# Altium schematic symbol library SWITCH-SLIDE-DPDT.SchLib: 1 symbol
Pins are listed as number, name and electrical type; pins without a type are passive.

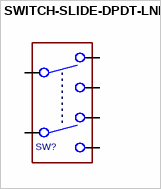
[diagram p0: symbol SWITCH-SLIDE-DPDT-LNK]

## SWITCH-SLIDE-DPDT-LNK
designator SW?  (value not drawn)
Drawn By: Juan I Carrano
pins: A1, A2, B1, B2, C1, C2